# Altium footprint library Altera Cyclone III.PcbLib: 13 footprints (part 1 of 2)
Each footprint in its own frame and in the unit in brackets; x right, y up, seen from the top. Pads: shape width x height; smd on the part's side, far side on the other; paste and mask are expansions set on the pad; w line width, h text height; cw(c..) or ccw(c..) is an arc to the next point about the centre after c.
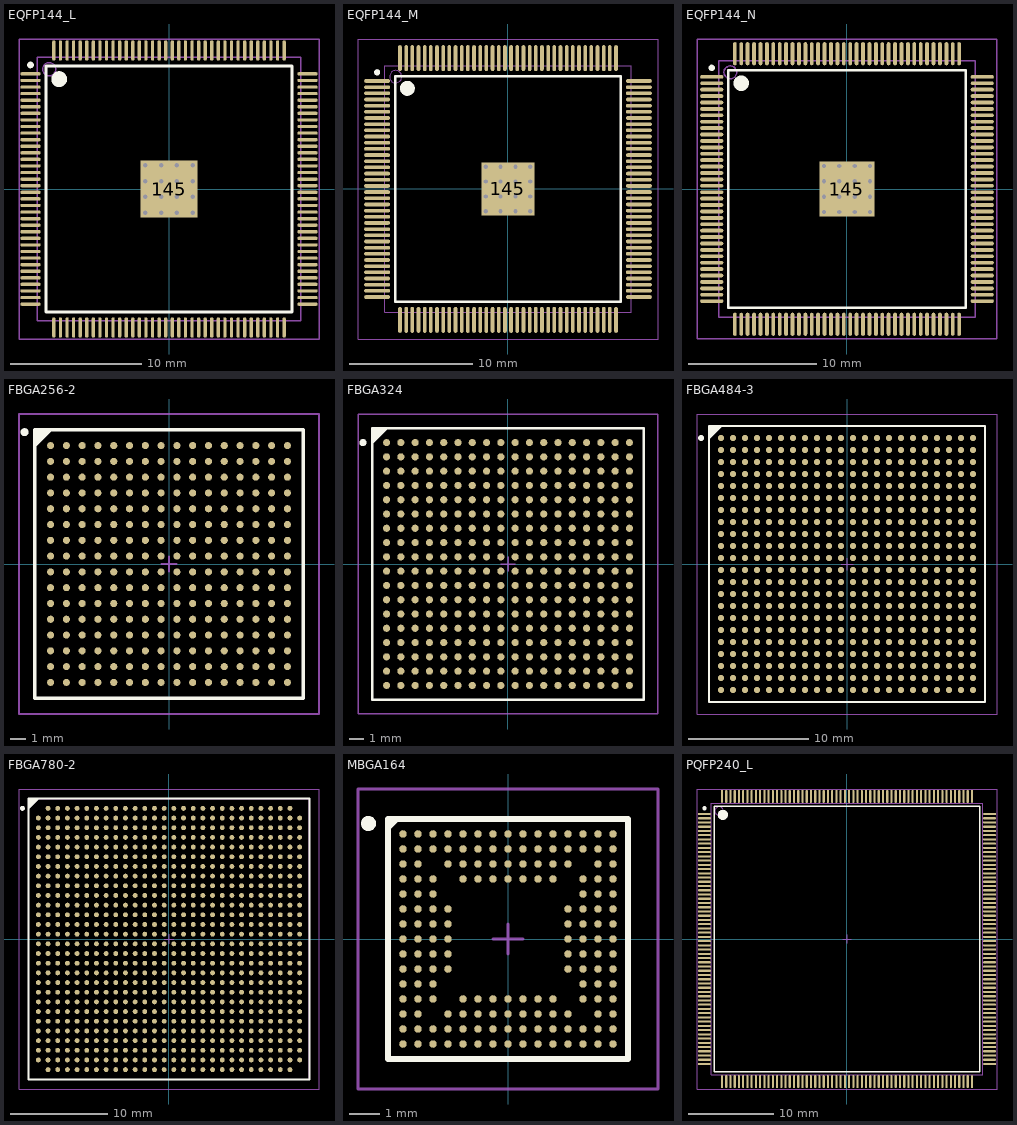
[diagram p0: the footprints below, top view; thin cyan lines are the x and y axes]

## EQFP144_L [mm] "Thin QFP, 144-Leads, Body 20x20mm, Pitch 0.5mm, IPC High Density"
height 1.6
pads (145):
  oval 1.55x0.25 smd: 1(-10.525,8.75) 2(-10.525,8.25) 3(-10.525,7.75) 4(-10.525,7.25) 5(-10.525,6.75) 6(-10.525,6.25) 7(-10.525,5.75) 8(-10.525,5.25) 9(-10.525,4.75) 10(-10.525,4.25) 11(-10.525,3.75) 12(-10.525,3.25) 13(-10.525,2.75) 14(-10.525,2.25) 15(-10.525,1.75) 16(-10.525,1.25) 17(-10.525,0.75) 18(-10.525,0.25) 19(-10.525,-0.25) 20(-10.525,-0.75) 21(-10.525,-1.25) 22(-10.525,-1.75) 23(-10.525,-2.25) 24(-10.525,-2.75) 25(-10.525,-3.25) 26(-10.525,-3.75) 27(-10.525,-4.25) 28(-10.525,-4.75) 29(-10.525,-5.25) 30(-10.525,-5.75) 31(-10.525,-6.25) 32(-10.525,-6.75) 33(-10.525,-7.25) 34(-10.525,-7.75) 35(-10.525,-8.25) 36(-10.525,-8.75) 73(10.525,-8.75) 74(10.525,-8.25) 75(10.525,-7.75) 76(10.525,-7.25) 77(10.525,-6.75) 78(10.525,-6.25) 79(10.525,-5.75) 80(10.525,-5.25) 81(10.525,-4.75) 82(10.525,-4.25) 83(10.525,-3.75) 84(10.525,-3.25) 85(10.525,-2.75) 86(10.525,-2.25) 87(10.525,-1.75) 88(10.525,-1.25) 89(10.525,-0.75) 90(10.525,-0.25) 91(10.525,0.25) 92(10.525,0.75) 93(10.525,1.25) 94(10.525,1.75) 95(10.525,2.25) 96(10.525,2.75) 97(10.525,3.25) 98(10.525,3.75) 99(10.525,4.25) 100(10.525,4.75) 101(10.525,5.25) 102(10.525,5.75) 103(10.525,6.25) 104(10.525,6.75) 105(10.525,7.25) 106(10.525,7.75) 107(10.525,8.25) 108(10.525,8.75)
  oval 0.25x1.55 smd: 37(-8.75,-10.525) 38(-8.25,-10.525) 39(-7.75,-10.525) 40(-7.25,-10.525) 41(-6.75,-10.525) 42(-6.25,-10.525) 43(-5.75,-10.525) 44(-5.25,-10.525) 45(-4.75,-10.525) 46(-4.25,-10.525) 47(-3.75,-10.525) 48(-3.25,-10.525) 49(-2.75,-10.525) 50(-2.25,-10.525) 51(-1.75,-10.525) 52(-1.25,-10.525) 53(-0.75,-10.525) 54(-0.25,-10.525) 55(0.25,-10.525) 56(0.75,-10.525) 57(1.25,-10.525) 58(1.75,-10.525) 59(2.25,-10.525) 60(2.75,-10.525) 61(3.25,-10.525) 62(3.75,-10.525) 63(4.25,-10.525) 64(4.75,-10.525) 65(5.25,-10.525) 66(5.75,-10.525) 67(6.25,-10.525) 68(6.75,-10.525) 69(7.25,-10.525) 70(7.75,-10.525) 71(8.25,-10.525) 72(8.75,-10.525) 109(8.75,10.525) 110(8.25,10.525) 111(7.75,10.525) 112(7.25,10.525) 113(6.75,10.525) 114(6.25,10.525) 115(5.75,10.525) 116(5.25,10.525) 117(4.75,10.525) 118(4.25,10.525) 119(3.75,10.525) 120(3.25,10.525) 121(2.75,10.525) 122(2.25,10.525) 123(1.75,10.525) 124(1.25,10.525) 125(0.75,10.525) 126(0.25,10.525) 127(-0.25,10.525) 128(-0.75,10.525) 129(-1.25,10.525) 130(-1.75,10.525) 131(-2.25,10.525) 132(-2.75,10.525) 133(-3.25,10.525) 134(-3.75,10.525) 135(-4.25,10.525) 136(-4.75,10.525) 137(-5.25,10.525) 138(-5.75,10.525) 139(-6.25,10.525) 140(-6.75,10.525) 141(-7.25,10.525) 142(-7.75,10.525) 143(-8.25,10.525) 144(-8.75,10.525)
  rect 4.3x4.3 smd: 145(0,0)
via -1.8,1.8 diameter 0.66 hole 0.33
via -0.6,1.8 diameter 0.66 hole 0.33
via 0.6,1.8 diameter 0.66 hole 0.33
via 1.8,1.8 diameter 0.66 hole 0.33
via -1.8,0.6 diameter 0.66 hole 0.33
via -0.6,0.6 diameter 0.66 hole 0.33
via 0.6,0.6 diameter 0.66 hole 0.33
via 1.8,0.6 diameter 0.66 hole 0.33
via -1.8,-0.6 diameter 0.66 hole 0.33
via -0.6,-0.6 diameter 0.66 hole 0.33
via 0.6,-0.6 diameter 0.66 hole 0.33
via 1.8,-0.6 diameter 0.66 hole 0.33
via -1.8,-1.8 diameter 0.66 hole 0.33
via -0.6,-1.8 diameter 0.66 hole 0.33
via 0.6,-1.8 diameter 0.66 hole 0.33
via 1.8,-1.8 diameter 0.66 hole 0.33
Top Overlay:
  circle w0.25: c-10.525,9.425 r0.125
  circle w0.6: c-8.35,8.35 r0.3
  lines w0.2: -9.35,-9.35 -9.35,9.35 9.35,9.35 9.35,-9.35 -9.35,-9.35
Mechanical 13:
  circle w0.1: c-9.1,9.1 r0.5
  lines w0.1: -10,-10 -10,10 10,10 10,-10 -10,-10
Mechanical 15:
  lines w0.1: -0.5,0 0.5,0 ; 0,-0.5 0,0.5 ; -11.4,-11.4 -11.4,11.4 11.4,11.4 11.4,-11.4 -11.4,-11.4
3D body: height 1.6, standoff 0, extent -10,-10 10,10

## EQFP144_M [mm] "Thin QFP, 144-Leads, Body 20x20mm, Pitch 0.5mm, IPC Low Density"
height 1.6
pads (145):
  oval 2.1x0.3 smd: 1(-10.6,8.75) 2(-10.6,8.25) 3(-10.6,7.75) 4(-10.6,7.25) 5(-10.6,6.75) 6(-10.6,6.25) 7(-10.6,5.75) 8(-10.6,5.25) 9(-10.6,4.75) 10(-10.6,4.25) 11(-10.6,3.75) 12(-10.6,3.25) 13(-10.6,2.75) 14(-10.6,2.25) 15(-10.6,1.75) 16(-10.6,1.25) 17(-10.6,0.75) 18(-10.6,0.25) 19(-10.6,-0.25) 20(-10.6,-0.75) 21(-10.6,-1.25) 22(-10.6,-1.75) 23(-10.6,-2.25) 24(-10.6,-2.75) 25(-10.6,-3.25) 26(-10.6,-3.75) 27(-10.6,-4.25) 28(-10.6,-4.75) 29(-10.6,-5.25) 30(-10.6,-5.75) 31(-10.6,-6.25) 32(-10.6,-6.75) 33(-10.6,-7.25) 34(-10.6,-7.75) 35(-10.6,-8.25) 36(-10.6,-8.75) 73(10.6,-8.75) 74(10.6,-8.25) 75(10.6,-7.75) 76(10.6,-7.25) 77(10.6,-6.75) 78(10.6,-6.25) 79(10.6,-5.75) 80(10.6,-5.25) 81(10.6,-4.75) 82(10.6,-4.25) 83(10.6,-3.75) 84(10.6,-3.25) 85(10.6,-2.75) 86(10.6,-2.25) 87(10.6,-1.75) 88(10.6,-1.25) 89(10.6,-0.75) 90(10.6,-0.25) 91(10.6,0.25) 92(10.6,0.75) 93(10.6,1.25) 94(10.6,1.75) 95(10.6,2.25) 96(10.6,2.75) 97(10.6,3.25) 98(10.6,3.75) 99(10.6,4.25) 100(10.6,4.75) 101(10.6,5.25) 102(10.6,5.75) 103(10.6,6.25) 104(10.6,6.75) 105(10.6,7.25) 106(10.6,7.75) 107(10.6,8.25) 108(10.6,8.75)
  oval 0.3x2.1 smd: 37(-8.75,-10.6) 38(-8.25,-10.6) 39(-7.75,-10.6) 40(-7.25,-10.6) 41(-6.75,-10.6) 42(-6.25,-10.6) 43(-5.75,-10.6) 44(-5.25,-10.6) 45(-4.75,-10.6) 46(-4.25,-10.6) 47(-3.75,-10.6) 48(-3.25,-10.6) 49(-2.75,-10.6) 50(-2.25,-10.6) 51(-1.75,-10.6) 52(-1.25,-10.6) 53(-0.75,-10.6) 54(-0.25,-10.6) 55(0.25,-10.6) 56(0.75,-10.6) 57(1.25,-10.6) 58(1.75,-10.6) 59(2.25,-10.6) 60(2.75,-10.6) 61(3.25,-10.6) 62(3.75,-10.6) 63(4.25,-10.6) 64(4.75,-10.6) 65(5.25,-10.6) 66(5.75,-10.6) 67(6.25,-10.6) 68(6.75,-10.6) 69(7.25,-10.6) 70(7.75,-10.6) 71(8.25,-10.6) 72(8.75,-10.6) 109(8.75,10.6) 110(8.25,10.6) 111(7.75,10.6) 112(7.25,10.6) 113(6.75,10.6) 114(6.25,10.6) 115(5.75,10.6) 116(5.25,10.6) 117(4.75,10.6) 118(4.25,10.6) 119(3.75,10.6) 120(3.25,10.6) 121(2.75,10.6) 122(2.25,10.6) 123(1.75,10.6) 124(1.25,10.6) 125(0.75,10.6) 126(0.25,10.6) 127(-0.25,10.6) 128(-0.75,10.6) 129(-1.25,10.6) 130(-1.75,10.6) 131(-2.25,10.6) 132(-2.75,10.6) 133(-3.25,10.6) 134(-3.75,10.6) 135(-4.25,10.6) 136(-4.75,10.6) 137(-5.25,10.6) 138(-5.75,10.6) 139(-6.25,10.6) 140(-6.75,10.6) 141(-7.25,10.6) 142(-7.75,10.6) 143(-8.25,10.6) 144(-8.75,10.6)
  rect 4.3x4.3 smd: 145(0,0)
via 1.8,-1.8 diameter 0.66 hole 0.33
via 0.6,-1.8 diameter 0.66 hole 0.33
via -0.6,-1.8 diameter 0.66 hole 0.33
via -1.8,-1.8 diameter 0.66 hole 0.33
via 1.8,-0.6 diameter 0.66 hole 0.33
via 0.6,-0.6 diameter 0.66 hole 0.33
via -0.6,-0.6 diameter 0.66 hole 0.33
via -1.8,-0.6 diameter 0.66 hole 0.33
via 1.8,0.6 diameter 0.66 hole 0.33
via 0.6,0.6 diameter 0.66 hole 0.33
via -0.6,0.6 diameter 0.66 hole 0.33
via -1.8,0.6 diameter 0.66 hole 0.33
via 1.8,1.8 diameter 0.66 hole 0.33
via 0.6,1.8 diameter 0.66 hole 0.33
via -0.6,1.8 diameter 0.66 hole 0.33
via -1.8,1.8 diameter 0.66 hole 0.33
Top Overlay:
  circle w0.25: c-10.6,9.45 r0.125
  circle w0.6: c-8.15,8.15 r0.3
  lines w0.2: -9.15,-9.15 -9.15,9.15 9.15,9.15 9.15,-9.15 -9.15,-9.15
Mechanical 13:
  circle w0.1: c-9.1,9.1 r0.5
  lines w0.1: -10,-10 -10,10 10,10 10,-10 -10,-10
Mechanical 15:
  lines w0.1: -0.5,0 0.5,0 ; 0,-0.5 0,0.5 ; -12.15,-12.15 -12.15,12.15 12.15,12.15 12.15,-12.15 -12.15,-12.15
3D body: height 1.6, standoff 0.05, extent -10,-10 10,10

## EQFP144_N [mm] "Thin QFP, 144-Leads, Body 20x20mm, Pitch 0.5mm, IPC Medium Density"
height 1.6
pads (145):
  oval 1.8x0.3 smd: 1(-10.55,8.75) 2(-10.55,8.25) 3(-10.55,7.75) 4(-10.55,7.25) 5(-10.55,6.75) 6(-10.55,6.25) 7(-10.55,5.75) 8(-10.55,5.25) 9(-10.55,4.75) 10(-10.55,4.25) 11(-10.55,3.75) 12(-10.55,3.25) 13(-10.55,2.75) 14(-10.55,2.25) 15(-10.55,1.75) 16(-10.55,1.25) 17(-10.55,0.75) 18(-10.55,0.25) 19(-10.55,-0.25) 20(-10.55,-0.75) 21(-10.55,-1.25) 22(-10.55,-1.75) 23(-10.55,-2.25) 24(-10.55,-2.75) 25(-10.55,-3.25) 26(-10.55,-3.75) 27(-10.55,-4.25) 28(-10.55,-4.75) 29(-10.55,-5.25) 30(-10.55,-5.75) 31(-10.55,-6.25) 32(-10.55,-6.75) 33(-10.55,-7.25) 34(-10.55,-7.75) 35(-10.55,-8.25) 36(-10.55,-8.75) 73(10.55,-8.75) 74(10.55,-8.25) 75(10.55,-7.75) 76(10.55,-7.25) 77(10.55,-6.75) 78(10.55,-6.25) 79(10.55,-5.75) 80(10.55,-5.25) 81(10.55,-4.75) 82(10.55,-4.25) 83(10.55,-3.75) 84(10.55,-3.25) 85(10.55,-2.75) 86(10.55,-2.25) 87(10.55,-1.75) 88(10.55,-1.25) 89(10.55,-0.75) 90(10.55,-0.25) 91(10.55,0.25) 92(10.55,0.75) 93(10.55,1.25) 94(10.55,1.75) 95(10.55,2.25) 96(10.55,2.75) 97(10.55,3.25) 98(10.55,3.75) 99(10.55,4.25) 100(10.55,4.75) 101(10.55,5.25) 102(10.55,5.75) 103(10.55,6.25) 104(10.55,6.75) 105(10.55,7.25) 106(10.55,7.75) 107(10.55,8.25) 108(10.55,8.75)
  oval 0.3x1.8 smd: 37(-8.75,-10.55) 38(-8.25,-10.55) 39(-7.75,-10.55) 40(-7.25,-10.55) 41(-6.75,-10.55) 42(-6.25,-10.55) 43(-5.75,-10.55) 44(-5.25,-10.55) 45(-4.75,-10.55) 46(-4.25,-10.55) 47(-3.75,-10.55) 48(-3.25,-10.55) 49(-2.75,-10.55) 50(-2.25,-10.55) 51(-1.75,-10.55) 52(-1.25,-10.55) 53(-0.75,-10.55) 54(-0.25,-10.55) 55(0.25,-10.55) 56(0.75,-10.55) 57(1.25,-10.55) 58(1.75,-10.55) 59(2.25,-10.55) 60(2.75,-10.55) 61(3.25,-10.55) 62(3.75,-10.55) 63(4.25,-10.55) 64(4.75,-10.55) 65(5.25,-10.55) 66(5.75,-10.55) 67(6.25,-10.55) 68(6.75,-10.55) 69(7.25,-10.55) 70(7.75,-10.55) 71(8.25,-10.55) 72(8.75,-10.55) 109(8.75,10.55) 110(8.25,10.55) 111(7.75,10.55) 112(7.25,10.55) 113(6.75,10.55) 114(6.25,10.55) 115(5.75,10.55) 116(5.25,10.55) 117(4.75,10.55) 118(4.25,10.55) 119(3.75,10.55) 120(3.25,10.55) 121(2.75,10.55) 122(2.25,10.55) 123(1.75,10.55) 124(1.25,10.55) 125(0.75,10.55) 126(0.25,10.55) 127(-0.25,10.55) 128(-0.75,10.55) 129(-1.25,10.55) 130(-1.75,10.55) 131(-2.25,10.55) 132(-2.75,10.55) 133(-3.25,10.55) 134(-3.75,10.55) 135(-4.25,10.55) 136(-4.75,10.55) 137(-5.25,10.55) 138(-5.75,10.55) 139(-6.25,10.55) 140(-6.75,10.55) 141(-7.25,10.55) 142(-7.75,10.55) 143(-8.25,10.55) 144(-8.75,10.55)
  rect 4.3x4.3 smd: 145(0,0)
via -1.8,1.8 diameter 0.66 hole 0.33
via -0.6,1.8 diameter 0.66 hole 0.33
via 0.6,1.8 diameter 0.66 hole 0.33
via 1.8,1.8 diameter 0.66 hole 0.33
via -1.8,0.6 diameter 0.66 hole 0.33
via -0.6,0.6 diameter 0.66 hole 0.33
via 0.6,0.6 diameter 0.66 hole 0.33
via 1.8,0.6 diameter 0.66 hole 0.33
via -1.8,-0.6 diameter 0.66 hole 0.33
via -0.6,-0.6 diameter 0.66 hole 0.33
via 0.6,-0.6 diameter 0.66 hole 0.33
via 1.8,-0.6 diameter 0.66 hole 0.33
via -1.8,-1.8 diameter 0.66 hole 0.33
via -0.6,-1.8 diameter 0.66 hole 0.33
via 0.6,-1.8 diameter 0.66 hole 0.33
via 1.8,-1.8 diameter 0.66 hole 0.33
Top Overlay:
  circle w0.25: c-10.55,9.45 r0.125
  circle w0.6: c-8.25,8.25 r0.3
  lines w0.2: -9.25,-9.25 -9.25,9.25 9.25,9.25 9.25,-9.25 -9.25,-9.25
Mechanical 13:
  circle w0.1: c-9.1,9.1 r0.5
  lines w0.1: -10,-10 -10,10 10,10 10,-10 -10,-10
Mechanical 15:
  lines w0.1: -0.5,0 0.5,0 ; 0,-0.5 0,0.5 ; -11.7,-11.7 -11.7,11.7 11.7,11.7 11.7,-11.7 -11.7,-11.7
3D body: height 1.6, standoff 0, extent -10,-10 10,10

## FBGA256-2 [mm] "BGA, 256-Leads, Body 17x17mm, Pitch 1mm"
height 1.55
pads (256):
  round 0.45 smd: A1(-7.5,7.5) A2(-6.5,7.5) A3(-5.5,7.5) A4(-4.5,7.5) A5(-3.5,7.5) A6(-2.5,7.5) A7(-1.5,7.5) A8(-0.5,7.5) A9(0.5,7.5) A10(1.5,7.5) A11(2.5,7.5) A12(3.5,7.5) A13(4.5,7.5) A14(5.5,7.5) A15(6.5,7.5) A16(7.5,7.5) B1(-7.5,6.5) B2(-6.5,6.5) B3(-5.5,6.5) B4(-4.5,6.5) B5(-3.5,6.5) B6(-2.5,6.5) B7(-1.5,6.5) B8(-0.5,6.5) B9(0.5,6.5) B10(1.5,6.5) B11(2.5,6.5) B12(3.5,6.5) B13(4.5,6.5) B14(5.5,6.5) B15(6.5,6.5) B16(7.5,6.5) C1(-7.5,5.5) C2(-6.5,5.5) C3(-5.5,5.5) C4(-4.5,5.5) C5(-3.5,5.5) C6(-2.5,5.5) C7(-1.5,5.5) C8(-0.5,5.5) C9(0.5,5.5) C10(1.5,5.5) C11(2.5,5.5) C12(3.5,5.5) C13(4.5,5.5) C14(5.5,5.5) C15(6.5,5.5) C16(7.5,5.5) D1(-7.5,4.5) D2(-6.5,4.5) D3(-5.5,4.5) D4(-4.5,4.5) D5(-3.5,4.5) D6(-2.5,4.5) D7(-1.5,4.5) D8(-0.5,4.5) D9(0.5,4.5) D10(1.5,4.5) D11(2.5,4.5) D12(3.5,4.5) D13(4.5,4.5) D14(5.5,4.5) D15(6.5,4.5) D16(7.5,4.5) E1(-7.5,3.5) E2(-6.5,3.5) E3(-5.5,3.5) E4(-4.5,3.5) E5(-3.5,3.5) E6(-2.5,3.5) E7(-1.5,3.5) E8(-0.5,3.5) E9(0.5,3.5) E10(1.5,3.5) E11(2.5,3.5) E12(3.5,3.5) E13(4.5,3.5) E14(5.5,3.5) E15(6.5,3.5) E16(7.5,3.5) F1(-7.5,2.5) F2(-6.5,2.5) F3(-5.5,2.5) F4(-4.5,2.5) F5(-3.5,2.5) F6(-2.5,2.5) F7(-1.5,2.5) F8(-0.5,2.5) F9(0.5,2.5) F10(1.5,2.5) F11(2.5,2.5) F12(3.5,2.5) F13(4.5,2.5) F14(5.5,2.5) F15(6.5,2.5) F16(7.5,2.5) G1(-7.5,1.5) G2(-6.5,1.5) G3(-5.5,1.5) G4(-4.5,1.5) G5(-3.5,1.5) G6(-2.5,1.5) G7(-1.5,1.5) G8(-0.5,1.5) G9(0.5,1.5) G10(1.5,1.5) G11(2.5,1.5) G12(3.5,1.5) G13(4.5,1.5) G14(5.5,1.5) G15(6.5,1.5) G16(7.5,1.5) H1(-7.5,0.5) H2(-6.5,0.5) H3(-5.5,0.5) H4(-4.5,0.5) H5(-3.5,0.5) H6(-2.5,0.5) H7(-1.5,0.5) H8(-0.5,0.5) H9(0.5,0.5) H10(1.5,0.5) H11(2.5,0.5) H12(3.5,0.5) H13(4.5,0.5) H14(5.5,0.5) H15(6.5,0.5) H16(7.5,0.5) J1(-7.5,-0.5) J2(-6.5,-0.5) J3(-5.5,-0.5) J4(-4.5,-0.5) J5(-3.5,-0.5) J6(-2.5,-0.5) J7(-1.5,-0.5) J8(-0.5,-0.5) J9(0.5,-0.5) J10(1.5,-0.5) J11(2.5,-0.5) J12(3.5,-0.5) J13(4.5,-0.5) J14(5.5,-0.5) J15(6.5,-0.5) J16(7.5,-0.5) K1(-7.5,-1.5) K2(-6.5,-1.5) K3(-5.5,-1.5) K4(-4.5,-1.5) K5(-3.5,-1.5) K6(-2.5,-1.5) K7(-1.5,-1.5) K8(-0.5,-1.5) K9(0.5,-1.5) K10(1.5,-1.5) K11(2.5,-1.5) K12(3.5,-1.5) K13(4.5,-1.5) K14(5.5,-1.5) K15(6.5,-1.5) K16(7.5,-1.5) L1(-7.5,-2.5) L2(-6.5,-2.5) L3(-5.5,-2.5) L4(-4.5,-2.5) L5(-3.5,-2.5) L6(-2.5,-2.5) L7(-1.5,-2.5) L8(-0.5,-2.5) L9(0.5,-2.5) L10(1.5,-2.5) L11(2.5,-2.5) L12(3.5,-2.5) L13(4.5,-2.5) L14(5.5,-2.5) L15(6.5,-2.5) L16(7.5,-2.5) M1(-7.5,-3.5) M2(-6.5,-3.5) M3(-5.5,-3.5) M4(-4.5,-3.5) M5(-3.5,-3.5) M6(-2.5,-3.5) M7(-1.5,-3.5) M8(-0.5,-3.5) M9(0.5,-3.5) M10(1.5,-3.5) M11(2.5,-3.5) M12(3.5,-3.5) M13(4.5,-3.5) M14(5.5,-3.5) M15(6.5,-3.5) M16(7.5,-3.5) N1(-7.5,-4.5) N2(-6.5,-4.5) N3(-5.5,-4.5) N4(-4.5,-4.5) N5(-3.5,-4.5) N6(-2.5,-4.5) N7(-1.5,-4.5) N8(-0.5,-4.5) N9(0.5,-4.5) N10(1.5,-4.5) N11(2.5,-4.5) N12(3.5,-4.5) N13(4.5,-4.5) N14(5.5,-4.5) N15(6.5,-4.5) N16(7.5,-4.5) P1(-7.5,-5.5) P2(-6.5,-5.5) P3(-5.5,-5.5) P4(-4.5,-5.5) P5(-3.5,-5.5) P6(-2.5,-5.5) P7(-1.5,-5.5) P8(-0.5,-5.5) P9(0.5,-5.5) P10(1.5,-5.5) P11(2.5,-5.5) P12(3.5,-5.5) P13(4.5,-5.5) P14(5.5,-5.5) P15(6.5,-5.5) P16(7.5,-5.5) R1(-7.5,-6.5) R2(-6.5,-6.5) R3(-5.5,-6.5) R4(-4.5,-6.5) R5(-3.5,-6.5) R6(-2.5,-6.5) R7(-1.5,-6.5) R8(-0.5,-6.5) R9(0.5,-6.5) R10(1.5,-6.5) R11(2.5,-6.5) R12(3.5,-6.5) R13(4.5,-6.5) R14(5.5,-6.5) R15(6.5,-6.5) R16(7.5,-6.5) T1(-7.5,-7.5) T2(-6.5,-7.5) T3(-5.5,-7.5) T4(-4.5,-7.5) T5(-3.5,-7.5) T6(-2.5,-7.5) T7(-1.5,-7.5) T8(-0.5,-7.5) T9(0.5,-7.5) T10(1.5,-7.5) T11(2.5,-7.5) T12(3.5,-7.5) T13(4.5,-7.5) T14(5.5,-7.5) T15(6.5,-7.5) T16(7.5,-7.5)
Top Overlay:
  circle w0.25: c-9.15,8.35 r0.125
  region: -7.5,8.5 -8.5,7.5 -8.5,8.5
  lines w0.2: -8.5,7.5 -7.5,8.5 ; -8.5,-8.5 -8.5,8.5 8.5,8.5 8.5,-8.5 -8.5,-8.5
Mechanical 13:
  lines w0.1: -8.5,-8.5 -8.5,8.5 8.5,8.5 8.5,-8.5 -8.5,-8.5
Mechanical 15:
  lines w0.1: -0.5,0 0.5,0 ; 0,-0.5 0,0.5 ; -9.5,-9.5 -9.5,9.5 9.5,9.5 9.5,-9.5 -9.5,-9.5
3D body: height 1.55, standoff 0, extent -8.5,-8.5 8.5,8.5

## FBGA324 [mm] "BGA, 324-Leads, Body 19x19mm, Pitch 1mm"
height 2.2
pads (324):
  round 0.5 smd: A1(-8.5,8.5) A2(-7.5,8.5) A3(-6.5,8.5) A4(-5.5,8.5) A5(-4.5,8.5) A6(-3.5,8.5) A7(-2.5,8.5) A8(-1.5,8.5) A9(-0.5,8.5) A10(0.5,8.5) A11(1.5,8.5) A12(2.5,8.5) A13(3.5,8.5) A14(4.5,8.5) A15(5.5,8.5) A16(6.5,8.5) A17(7.5,8.5) A18(8.5,8.5) B1(-8.5,7.5) B2(-7.5,7.5) B3(-6.5,7.5) B4(-5.5,7.5) B5(-4.5,7.5) B6(-3.5,7.5) B7(-2.5,7.5) B8(-1.5,7.5) B9(-0.5,7.5) B10(0.5,7.5) B11(1.5,7.5) B12(2.5,7.5) B13(3.5,7.5) B14(4.5,7.5) B15(5.5,7.5) B16(6.5,7.5) B17(7.5,7.5) B18(8.5,7.5) C1(-8.5,6.5) C2(-7.5,6.5) C3(-6.5,6.5) C4(-5.5,6.5) C5(-4.5,6.5) C6(-3.5,6.5) C7(-2.5,6.5) C8(-1.5,6.5) C9(-0.5,6.5) C10(0.5,6.5) C11(1.5,6.5) C12(2.5,6.5) C13(3.5,6.5) C14(4.5,6.5) C15(5.5,6.5) C16(6.5,6.5) C17(7.5,6.5) C18(8.5,6.5) D1(-8.5,5.5) D2(-7.5,5.5) D3(-6.5,5.5) D4(-5.5,5.5) D5(-4.5,5.5) D6(-3.5,5.5) D7(-2.5,5.5) D8(-1.5,5.5) D9(-0.5,5.5) D10(0.5,5.5) D11(1.5,5.5) D12(2.5,5.5) D13(3.5,5.5) D14(4.5,5.5) D15(5.5,5.5) D16(6.5,5.5) D17(7.5,5.5) D18(8.5,5.5) E1(-8.5,4.5) E2(-7.5,4.5) E3(-6.5,4.5) E4(-5.5,4.5) E5(-4.5,4.5) E6(-3.5,4.5) E7(-2.5,4.5) E8(-1.5,4.5) E9(-0.5,4.5) E10(0.5,4.5) E11(1.5,4.5) E12(2.5,4.5) E13(3.5,4.5) E14(4.5,4.5) E15(5.5,4.5) E16(6.5,4.5) E17(7.5,4.5) E18(8.5,4.5) F1(-8.5,3.5) F2(-7.5,3.5) F3(-6.5,3.5) F4(-5.5,3.5) F5(-4.5,3.5) F6(-3.5,3.5) F7(-2.5,3.5) F8(-1.5,3.5) F9(-0.5,3.5) F10(0.5,3.5) F11(1.5,3.5) F12(2.5,3.5) F13(3.5,3.5) F14(4.5,3.5) F15(5.5,3.5) F16(6.5,3.5) F17(7.5,3.5) F18(8.5,3.5) G1(-8.5,2.5) G2(-7.5,2.5) G3(-6.5,2.5) G4(-5.5,2.5) G5(-4.5,2.5) G6(-3.5,2.5) G7(-2.5,2.5) G8(-1.5,2.5) G9(-0.5,2.5) G10(0.5,2.5) G11(1.5,2.5) G12(2.5,2.5) G13(3.5,2.5) G14(4.5,2.5) G15(5.5,2.5) G16(6.5,2.5) G17(7.5,2.5) G18(8.5,2.5) H1(-8.5,1.5) H2(-7.5,1.5) H3(-6.5,1.5) H4(-5.5,1.5) H5(-4.5,1.5) H6(-3.5,1.5) H7(-2.5,1.5) H8(-1.5,1.5) H9(-0.5,1.5) H10(0.5,1.5) H11(1.5,1.5) H12(2.5,1.5) H13(3.5,1.5) H14(4.5,1.5) H15(5.5,1.5) H16(6.5,1.5) H17(7.5,1.5) H18(8.5,1.5) J1(-8.5,0.5) J2(-7.5,0.5) J3(-6.5,0.5) J4(-5.5,0.5) J5(-4.5,0.5) J6(-3.5,0.5) J7(-2.5,0.5) J8(-1.5,0.5) J9(-0.5,0.5) J10(0.5,0.5) J11(1.5,0.5) J12(2.5,0.5) J13(3.5,0.5) J14(4.5,0.5) J15(5.5,0.5) J16(6.5,0.5) J17(7.5,0.5) J18(8.5,0.5) K1(-8.5,-0.5) K2(-7.5,-0.5) K3(-6.5,-0.5) K4(-5.5,-0.5) K5(-4.5,-0.5) K6(-3.5,-0.5) K7(-2.5,-0.5) K8(-1.5,-0.5) K9(-0.5,-0.5) K10(0.5,-0.5) K11(1.5,-0.5) K12(2.5,-0.5) K13(3.5,-0.5) K14(4.5,-0.5) K15(5.5,-0.5) K16(6.5,-0.5) K17(7.5,-0.5) K18(8.5,-0.5) L1(-8.5,-1.5) L2(-7.5,-1.5) L3(-6.5,-1.5) L4(-5.5,-1.5) L5(-4.5,-1.5) L6(-3.5,-1.5) L7(-2.5,-1.5) L8(-1.5,-1.5) L9(-0.5,-1.5) L10(0.5,-1.5) L11(1.5,-1.5) L12(2.5,-1.5) L13(3.5,-1.5) L14(4.5,-1.5) L15(5.5,-1.5) L16(6.5,-1.5) L17(7.5,-1.5) L18(8.5,-1.5) M1(-8.5,-2.5) M2(-7.5,-2.5) M3(-6.5,-2.5) M4(-5.5,-2.5) M5(-4.5,-2.5) M6(-3.5,-2.5) M7(-2.5,-2.5) M8(-1.5,-2.5) M9(-0.5,-2.5) M10(0.5,-2.5) M11(1.5,-2.5) M12(2.5,-2.5) M13(3.5,-2.5) M14(4.5,-2.5) M15(5.5,-2.5) M16(6.5,-2.5) M17(7.5,-2.5) M18(8.5,-2.5) N1(-8.5,-3.5) N2(-7.5,-3.5) N3(-6.5,-3.5) N4(-5.5,-3.5) N5(-4.5,-3.5) N6(-3.5,-3.5) N7(-2.5,-3.5) N8(-1.5,-3.5) N9(-0.5,-3.5) N10(0.5,-3.5) N11(1.5,-3.5) N12(2.5,-3.5) N13(3.5,-3.5) N14(4.5,-3.5) N15(5.5,-3.5) N16(6.5,-3.5) N17(7.5,-3.5) N18(8.5,-3.5) P1(-8.5,-4.5) P2(-7.5,-4.5) P3(-6.5,-4.5) P4(-5.5,-4.5) P5(-4.5,-4.5) P6(-3.5,-4.5) P7(-2.5,-4.5) P8(-1.5,-4.5) P9(-0.5,-4.5) P10(0.5,-4.5) P11(1.5,-4.5) P12(2.5,-4.5) P13(3.5,-4.5) P14(4.5,-4.5) P15(5.5,-4.5) P16(6.5,-4.5) P17(7.5,-4.5) P18(8.5,-4.5) R1(-8.5,-5.5) R2(-7.5,-5.5) R3(-6.5,-5.5) R4(-5.5,-5.5) R5(-4.5,-5.5) R6(-3.5,-5.5) R7(-2.5,-5.5) R8(-1.5,-5.5) R9(-0.5,-5.5) R10(0.5,-5.5) R11(1.5,-5.5) R12(2.5,-5.5) R13(3.5,-5.5) R14(4.5,-5.5) R15(5.5,-5.5) R16(6.5,-5.5) R17(7.5,-5.5) R18(8.5,-5.5) T1(-8.5,-6.5) T2(-7.5,-6.5) T3(-6.5,-6.5) T4(-5.5,-6.5) T5(-4.5,-6.5) T6(-3.5,-6.5) T7(-2.5,-6.5) T8(-1.5,-6.5) T9(-0.5,-6.5) T10(0.5,-6.5) T11(1.5,-6.5) T12(2.5,-6.5) T13(3.5,-6.5) T14(4.5,-6.5) T15(5.5,-6.5) T16(6.5,-6.5) T17(7.5,-6.5) T18(8.5,-6.5) U1(-8.5,-7.5) U2(-7.5,-7.5) U3(-6.5,-7.5) U4(-5.5,-7.5) U5(-4.5,-7.5) U6(-3.5,-7.5) U7(-2.5,-7.5) U8(-1.5,-7.5) U9(-0.5,-7.5) U10(0.5,-7.5) U11(1.5,-7.5) U12(2.5,-7.5) U13(3.5,-7.5) U14(4.5,-7.5) U15(5.5,-7.5) U16(6.5,-7.5) U17(7.5,-7.5) U18(8.5,-7.5) V1(-8.5,-8.5) V2(-7.5,-8.5) V3(-6.5,-8.5) V4(-5.5,-8.5) V5(-4.5,-8.5) V6(-3.5,-8.5) V7(-2.5,-8.5) V8(-1.5,-8.5) V9(-0.5,-8.5) V10(0.5,-8.5) V11(1.5,-8.5) V12(2.5,-8.5) V13(3.5,-8.5) V14(4.5,-8.5) V15(5.5,-8.5) V16(6.5,-8.5) V17(7.5,-8.5) V18(8.5,-8.5)
Top Overlay:
  circle w0.25: c-10.15,8.5 r0.125
  region: -8.5,9.5 -9.5,8.5 -9.5,9.5
  lines w0.2: -9.5,8.5 -8.5,9.5 ; -9.5,-9.5 9.5,-9.5 9.5,9.5 -9.5,9.5 -9.5,-9.5
Mechanical 13:
  lines w0.1: -9.5,-9.5 9.5,-9.5 9.5,9.5 -9.5,9.5 -9.5,-9.5
Mechanical 15:
  lines w0.1: -0.5,0 0.5,0 ; 0,-0.5 0,0.5 ; -10.5,-10.5 10.5,-10.5 10.5,10.5 -10.5,10.5 -10.5,-10.5
3D body: height 2.2, standoff 0, extent -9.5,-9.5 9.5,9.5

## FBGA484-3 [mm] "BGA, 484-Leads, Body 23x23mm, Pitch 1mm"
height 2.6
pads (484):
  round 0.5 smd: A1(-10.5,10.5) A2(-9.5,10.5) A3(-8.5,10.5) A4(-7.5,10.5) A5(-6.5,10.5) A6(-5.5,10.5) A7(-4.5,10.5) A8(-3.5,10.5) A9(-2.5,10.5) A10(-1.5,10.5) A11(-0.5,10.5) A12(0.5,10.5) A13(1.5,10.5) A14(2.5,10.5) A15(3.5,10.5) A16(4.5,10.5) A17(5.5,10.5) A18(6.5,10.5) A19(7.5,10.5) A20(8.5,10.5) A21(9.5,10.5) A22(10.5,10.5) AA1(-10.5,-9.5) AA2(-9.5,-9.5) AA3(-8.5,-9.5) AA4(-7.5,-9.5) AA5(-6.5,-9.5) AA6(-5.5,-9.5) AA7(-4.5,-9.5) AA8(-3.5,-9.5) AA9(-2.5,-9.5) AA10(-1.5,-9.5) AA11(-0.5,-9.5) AA12(0.5,-9.5) AA13(1.5,-9.5) AA14(2.5,-9.5) AA15(3.5,-9.5) AA16(4.5,-9.5) AA17(5.5,-9.5) AA18(6.5,-9.5) AA19(7.5,-9.5) AA20(8.5,-9.5) AA21(9.5,-9.5) AA22(10.5,-9.5) AB1(-10.5,-10.5) AB2(-9.5,-10.5) AB3(-8.5,-10.5) AB4(-7.5,-10.5) AB5(-6.5,-10.5) AB6(-5.5,-10.5) AB7(-4.5,-10.5) AB8(-3.5,-10.5) AB9(-2.5,-10.5) AB10(-1.5,-10.5) AB11(-0.5,-10.5) AB12(0.5,-10.5) AB13(1.5,-10.5) AB14(2.5,-10.5) AB15(3.5,-10.5) AB16(4.5,-10.5) AB17(5.5,-10.5) AB18(6.5,-10.5) AB19(7.5,-10.5) AB20(8.5,-10.5) AB21(9.5,-10.5) AB22(10.5,-10.5) B1(-10.5,9.5) B2(-9.5,9.5) B3(-8.5,9.5) B4(-7.5,9.5) B5(-6.5,9.5) B6(-5.5,9.5) B7(-4.5,9.5) B8(-3.5,9.5) B9(-2.5,9.5) B10(-1.5,9.5) B11(-0.5,9.5) B12(0.5,9.5) B13(1.5,9.5) B14(2.5,9.5) B15(3.5,9.5) B16(4.5,9.5) B17(5.5,9.5) B18(6.5,9.5) B19(7.5,9.5) B20(8.5,9.5) B21(9.5,9.5) B22(10.5,9.5) C1(-10.5,8.5) C2(-9.5,8.5) C3(-8.5,8.5) C4(-7.5,8.5) C5(-6.5,8.5) C6(-5.5,8.5) C7(-4.5,8.5) C8(-3.5,8.5) C9(-2.5,8.5) C10(-1.5,8.5) C11(-0.5,8.5) C12(0.5,8.5) C13(1.5,8.5) C14(2.5,8.5) C15(3.5,8.5) C16(4.5,8.5) C17(5.5,8.5) C18(6.5,8.5) C19(7.5,8.5) C20(8.5,8.5) C21(9.5,8.5) C22(10.5,8.5) D1(-10.5,7.5) D2(-9.5,7.5) D3(-8.5,7.5) D4(-7.5,7.5) D5(-6.5,7.5) D6(-5.5,7.5) D7(-4.5,7.5) D8(-3.5,7.5) D9(-2.5,7.5) D10(-1.5,7.5) D11(-0.5,7.5) D12(0.5,7.5) D13(1.5,7.5) D14(2.5,7.5) D15(3.5,7.5) D16(4.5,7.5) D17(5.5,7.5) D18(6.5,7.5) D19(7.5,7.5) D20(8.5,7.5) D21(9.5,7.5) D22(10.5,7.5) E1(-10.5,6.5) E2(-9.5,6.5) E3(-8.5,6.5) E4(-7.5,6.5) E5(-6.5,6.5) E6(-5.5,6.5) E7(-4.5,6.5) E8(-3.5,6.5) E9(-2.5,6.5) E10(-1.5,6.5) E11(-0.5,6.5) E12(0.5,6.5) E13(1.5,6.5) E14(2.5,6.5) E15(3.5,6.5) E16(4.5,6.5) E17(5.5,6.5) E18(6.5,6.5) E19(7.5,6.5) E20(8.5,6.5) E21(9.5,6.5) E22(10.5,6.5) F1(-10.5,5.5) F2(-9.5,5.5) F3(-8.5,5.5) F4(-7.5,5.5) F5(-6.5,5.5) F6(-5.5,5.5) F7(-4.5,5.5) F8(-3.5,5.5) F9(-2.5,5.5) F10(-1.5,5.5) F11(-0.5,5.5) F12(0.5,5.5) F13(1.5,5.5) F14(2.5,5.5) F15(3.5,5.5) F16(4.5,5.5) F17(5.5,5.5) F18(6.5,5.5) F19(7.5,5.5) F20(8.5,5.5) F21(9.5,5.5) F22(10.5,5.5) G1(-10.5,4.5) G2(-9.5,4.5) G3(-8.5,4.5) G4(-7.5,4.5) G5(-6.5,4.5) G6(-5.5,4.5) G7(-4.5,4.5) G8(-3.5,4.5) G9(-2.5,4.5) G10(-1.5,4.5) G11(-0.5,4.5) G12(0.5,4.5) G13(1.5,4.5) G14(2.5,4.5) G15(3.5,4.5) G16(4.5,4.5) G17(5.5,4.5) G18(6.5,4.5) G19(7.5,4.5) G20(8.5,4.5) G21(9.5,4.5) G22(10.5,4.5) H1(-10.5,3.5) H2(-9.5,3.5) H3(-8.5,3.5) H4(-7.5,3.5) H5(-6.5,3.5) H6(-5.5,3.5) H7(-4.5,3.5) H8(-3.5,3.5) H9(-2.5,3.5) H10(-1.5,3.5) H11(-0.5,3.5) H12(0.5,3.5) H13(1.5,3.5) H14(2.5,3.5) H15(3.5,3.5) H16(4.5,3.5) H17(5.5,3.5) H18(6.5,3.5) H19(7.5,3.5) H20(8.5,3.5) H21(9.5,3.5) H22(10.5,3.5) J1(-10.5,2.5) J2(-9.5,2.5) J3(-8.5,2.5) J4(-7.5,2.5) J5(-6.5,2.5) J6(-5.5,2.5) J7(-4.5,2.5) J8(-3.5,2.5) J9(-2.5,2.5) J10(-1.5,2.5) J11(-0.5,2.5) J12(0.5,2.5) J13(1.5,2.5) J14(2.5,2.5) J15(3.5,2.5) J16(4.5,2.5) J17(5.5,2.5) J18(6.5,2.5) J19(7.5,2.5) J20(8.5,2.5) J21(9.5,2.5) J22(10.5,2.5) K1(-10.5,1.5) K2(-9.5,1.5) K3(-8.5,1.5) K4(-7.5,1.5) K5(-6.5,1.5) K6(-5.5,1.5) K7(-4.5,1.5) K8(-3.5,1.5) K9(-2.5,1.5) K10(-1.5,1.5) K11(-0.5,1.5) K12(0.5,1.5) K13(1.5,1.5) K14(2.5,1.5) K15(3.5,1.5) K16(4.5,1.5) K17(5.5,1.5) K18(6.5,1.5) K19(7.5,1.5) K20(8.5,1.5) K21(9.5,1.5) K22(10.5,1.5) L1(-10.5,0.5) L2(-9.5,0.5) L3(-8.5,0.5) L4(-7.5,0.5) L5(-6.5,0.5) L6(-5.5,0.5) L7(-4.5,0.5) L8(-3.5,0.5) L9(-2.5,0.5) L10(-1.5,0.5) L11(-0.5,0.5) L12(0.5,0.5) L13(1.5,0.5) L14(2.5,0.5) L15(3.5,0.5) L16(4.5,0.5) L17(5.5,0.5) L18(6.5,0.5) L19(7.5,0.5) L20(8.5,0.5) L21(9.5,0.5) L22(10.5,0.5) M1(-10.5,-0.5) M2(-9.5,-0.5) M3(-8.5,-0.5) M4(-7.5,-0.5) M5(-6.5,-0.5) M6(-5.5,-0.5) M7(-4.5,-0.5) M8(-3.5,-0.5) M9(-2.5,-0.5) M10(-1.5,-0.5) M11(-0.5,-0.5) M12(0.5,-0.5) M13(1.5,-0.5) M14(2.5,-0.5) M15(3.5,-0.5) M16(4.5,-0.5) M17(5.5,-0.5) M18(6.5,-0.5) M19(7.5,-0.5) M20(8.5,-0.5) M21(9.5,-0.5) M22(10.5,-0.5) N1(-10.5,-1.5) N2(-9.5,-1.5) N3(-8.5,-1.5) N4(-7.5,-1.5) N5(-6.5,-1.5) N6(-5.5,-1.5) N7(-4.5,-1.5) N8(-3.5,-1.5) N9(-2.5,-1.5) N10(-1.5,-1.5) N11(-0.5,-1.5) N12(0.5,-1.5) N13(1.5,-1.5) N14(2.5,-1.5) N15(3.5,-1.5) N16(4.5,-1.5) N17(5.5,-1.5) N18(6.5,-1.5) N19(7.5,-1.5) N20(8.5,-1.5) N21(9.5,-1.5) N22(10.5,-1.5) P1(-10.5,-2.5) P2(-9.5,-2.5) P3(-8.5,-2.5) P4(-7.5,-2.5) P5(-6.5,-2.5) P6(-5.5,-2.5) P7(-4.5,-2.5) P8(-3.5,-2.5) P9(-2.5,-2.5) P10(-1.5,-2.5) P11(-0.5,-2.5) P12(0.5,-2.5) P13(1.5,-2.5) P14(2.5,-2.5) P15(3.5,-2.5) P16(4.5,-2.5) P17(5.5,-2.5) P18(6.5,-2.5) P19(7.5,-2.5) P20(8.5,-2.5) P21(9.5,-2.5) P22(10.5,-2.5) R1(-10.5,-3.5) R2(-9.5,-3.5) R3(-8.5,-3.5) R4(-7.5,-3.5) R5(-6.5,-3.5) R6(-5.5,-3.5) R7(-4.5,-3.5) R8(-3.5,-3.5) R9(-2.5,-3.5) R10(-1.5,-3.5) R11(-0.5,-3.5) R12(0.5,-3.5) R13(1.5,-3.5) R14(2.5,-3.5) R15(3.5,-3.5) R16(4.5,-3.5) R17(5.5,-3.5) R18(6.5,-3.5) R19(7.5,-3.5) R20(8.5,-3.5) R21(9.5,-3.5) R22(10.5,-3.5) T1(-10.5,-4.5) T2(-9.5,-4.5) T3(-8.5,-4.5) T4(-7.5,-4.5) T5(-6.5,-4.5) T6(-5.5,-4.5) T7(-4.5,-4.5) T8(-3.5,-4.5) T9(-2.5,-4.5) T10(-1.5,-4.5) T11(-0.5,-4.5) T12(0.5,-4.5) T13(1.5,-4.5) T14(2.5,-4.5) T15(3.5,-4.5) T16(4.5,-4.5) T17(5.5,-4.5) T18(6.5,-4.5) T19(7.5,-4.5) T20(8.5,-4.5) T21(9.5,-4.5) T22(10.5,-4.5) U1(-10.5,-5.5) U2(-9.5,-5.5) U3(-8.5,-5.5) U4(-7.5,-5.5) U5(-6.5,-5.5) U6(-5.5,-5.5) U7(-4.5,-5.5) U8(-3.5,-5.5) U9(-2.5,-5.5) U10(-1.5,-5.5) U11(-0.5,-5.5) U12(0.5,-5.5) U13(1.5,-5.5) U14(2.5,-5.5) U15(3.5,-5.5) U16(4.5,-5.5) U17(5.5,-5.5) U18(6.5,-5.5) U19(7.5,-5.5) U20(8.5,-5.5) U21(9.5,-5.5) U22(10.5,-5.5) V1(-10.5,-6.5) V2(-9.5,-6.5) V3(-8.5,-6.5) V4(-7.5,-6.5) V5(-6.5,-6.5) V6(-5.5,-6.5) V7(-4.5,-6.5) V8(-3.5,-6.5) V9(-2.5,-6.5) V10(-1.5,-6.5) V11(-0.5,-6.5) V12(0.5,-6.5) V13(1.5,-6.5) V14(2.5,-6.5) V15(3.5,-6.5) V16(4.5,-6.5) V17(5.5,-6.5) V18(6.5,-6.5) V19(7.5,-6.5) V20(8.5,-6.5) V21(9.5,-6.5) V22(10.5,-6.5) W1(-10.5,-7.5) W2(-9.5,-7.5) W3(-8.5,-7.5) W4(-7.5,-7.5) W5(-6.5,-7.5) W6(-5.5,-7.5) W7(-4.5,-7.5) W8(-3.5,-7.5) W9(-2.5,-7.5) W10(-1.5,-7.5) W11(-0.5,-7.5) W12(0.5,-7.5) W13(1.5,-7.5) W14(2.5,-7.5) W15(3.5,-7.5) W16(4.5,-7.5) W17(5.5,-7.5) W18(6.5,-7.5) W19(7.5,-7.5) W20(8.5,-7.5) W21(9.5,-7.5) W22(10.5,-7.5) Y1(-10.5,-8.5) Y2(-9.5,-8.5) Y3(-8.5,-8.5) Y4(-7.5,-8.5) Y5(-6.5,-8.5) Y6(-5.5,-8.5) Y7(-4.5,-8.5) Y8(-3.5,-8.5) Y9(-2.5,-8.5) Y10(-1.5,-8.5) Y11(-0.5,-8.5) Y12(0.5,-8.5) Y13(1.5,-8.5) Y14(2.5,-8.5) Y15(3.5,-8.5) Y16(4.5,-8.5) Y17(5.5,-8.5) Y18(6.5,-8.5) Y19(7.5,-8.5) Y20(8.5,-8.5) Y21(9.5,-8.5) Y22(10.5,-8.5)
Top Overlay:
  circle w0.25: c-12.15,10.5 r0.125
  region: -10.5,11.5 -11.5,10.5 -11.5,11.5
  lines w0.2: -11.5,10.5 -10.5,11.5 ; -11.5,-11.5 -11.5,11.5 11.5,11.5 11.5,-11.5 -11.5,-11.5
Mechanical 13:
  lines w0.1: -11.5,-11.5 -11.5,11.5 11.5,11.5 11.5,-11.5 -11.5,-11.5
Mechanical 15:
  lines w0.1: -0.5,0 0.5,0 ; 0,-0.5 0,0.5 ; -12.5,-12.5 -12.5,12.5 12.5,12.5 12.5,-12.5 -12.5,-12.5
3D body: height 2.6, standoff 0, extent -11.5,-11.5 11.5,11.5

## FBGA780-2 [mm] "BGA, 780-Leads, Body 29x29mm, Pitch 1mm"
height 2.6
pads (780):
  round 0.5 smd: A2(-12.5,13.5) A3(-11.5,13.5) A4(-10.5,13.5) A5(-9.5,13.5) A6(-8.5,13.5) A7(-7.5,13.5) A8(-6.5,13.5) A9(-5.5,13.5) A10(-4.5,13.5) A11(-3.5,13.5) A12(-2.5,13.5) A13(-1.5,13.5) A14(-0.5,13.5) A15(0.5,13.5) A16(1.5,13.5) A17(2.5,13.5) A18(3.5,13.5) A19(4.5,13.5) A20(5.5,13.5) A21(6.5,13.5) A22(7.5,13.5) A23(8.5,13.5) A24(9.5,13.5) A25(10.5,13.5) A26(11.5,13.5) A27(12.5,13.5) AA1(-13.5,-6.5) AA2(-12.5,-6.5) AA3(-11.5,-6.5) AA4(-10.5,-6.5) AA5(-9.5,-6.5) AA6(-8.5,-6.5) AA7(-7.5,-6.5) AA8(-6.5,-6.5) AA9(-5.5,-6.5) AA10(-4.5,-6.5) AA11(-3.5,-6.5) AA12(-2.5,-6.5) AA13(-1.5,-6.5) AA14(-0.5,-6.5) AA15(0.5,-6.5) AA16(1.5,-6.5) AA17(2.5,-6.5) AA18(3.5,-6.5) AA19(4.5,-6.5) AA20(5.5,-6.5) AA21(6.5,-6.5) AA22(7.5,-6.5) AA23(8.5,-6.5) AA24(9.5,-6.5) AA25(10.5,-6.5) AA26(11.5,-6.5) AA27(12.5,-6.5) AA28(13.5,-6.5) AB1(-13.5,-7.5) AB2(-12.5,-7.5) AB3(-11.5,-7.5) AB4(-10.5,-7.5) AB5(-9.5,-7.5) AB6(-8.5,-7.5) AB7(-7.5,-7.5) AB8(-6.5,-7.5) AB9(-5.5,-7.5) AB10(-4.5,-7.5) AB11(-3.5,-7.5) AB12(-2.5,-7.5) AB13(-1.5,-7.5) AB14(-0.5,-7.5) AB15(0.5,-7.5) AB16(1.5,-7.5) AB17(2.5,-7.5) AB18(3.5,-7.5) AB19(4.5,-7.5) AB20(5.5,-7.5) AB21(6.5,-7.5) AB22(7.5,-7.5) AB23(8.5,-7.5) AB24(9.5,-7.5) AB25(10.5,-7.5) AB26(11.5,-7.5) AB27(12.5,-7.5) AB28(13.5,-7.5) AC1(-13.5,-8.5) AC2(-12.5,-8.5) AC3(-11.5,-8.5) AC4(-10.5,-8.5) AC5(-9.5,-8.5) AC6(-8.5,-8.5) AC7(-7.5,-8.5) AC8(-6.5,-8.5) AC9(-5.5,-8.5) AC10(-4.5,-8.5) AC11(-3.5,-8.5) AC12(-2.5,-8.5) AC13(-1.5,-8.5) AC14(-0.5,-8.5) AC15(0.5,-8.5) AC16(1.5,-8.5) AC17(2.5,-8.5) AC18(3.5,-8.5) AC19(4.5,-8.5) AC20(5.5,-8.5) AC21(6.5,-8.5) AC22(7.5,-8.5) AC23(8.5,-8.5) AC24(9.5,-8.5) AC25(10.5,-8.5) AC26(11.5,-8.5) AC27(12.5,-8.5) AC28(13.5,-8.5) AD1(-13.5,-9.5) AD2(-12.5,-9.5) AD3(-11.5,-9.5) AD4(-10.5,-9.5) AD5(-9.5,-9.5) AD6(-8.5,-9.5) AD7(-7.5,-9.5) AD8(-6.5,-9.5) AD9(-5.5,-9.5) AD10(-4.5,-9.5) AD11(-3.5,-9.5) AD12(-2.5,-9.5) AD13(-1.5,-9.5) AD14(-0.5,-9.5) AD15(0.5,-9.5) AD16(1.5,-9.5) AD17(2.5,-9.5) AD18(3.5,-9.5) AD19(4.5,-9.5) AD20(5.5,-9.5) AD21(6.5,-9.5) AD22(7.5,-9.5) AD23(8.5,-9.5) AD24(9.5,-9.5) AD25(10.5,-9.5) AD26(11.5,-9.5) AD27(12.5,-9.5) AD28(13.5,-9.5) AE1(-13.5,-10.5) AE2(-12.5,-10.5) AE3(-11.5,-10.5) AE4(-10.5,-10.5) AE5(-9.5,-10.5) AE6(-8.5,-10.5) AE7(-7.5,-10.5) AE8(-6.5,-10.5) AE9(-5.5,-10.5) AE10(-4.5,-10.5) AE11(-3.5,-10.5) AE12(-2.5,-10.5) AE13(-1.5,-10.5) AE14(-0.5,-10.5) AE15(0.5,-10.5) AE16(1.5,-10.5) AE17(2.5,-10.5) AE18(3.5,-10.5) AE19(4.5,-10.5) AE20(5.5,-10.5) AE21(6.5,-10.5) AE22(7.5,-10.5) AE23(8.5,-10.5) AE24(9.5,-10.5) AE25(10.5,-10.5) AE26(11.5,-10.5) AE27(12.5,-10.5) AE28(13.5,-10.5) AF1(-13.5,-11.5) AF2(-12.5,-11.5) AF3(-11.5,-11.5) AF4(-10.5,-11.5) AF5(-9.5,-11.5) AF6(-8.5,-11.5) AF7(-7.5,-11.5) AF8(-6.5,-11.5) AF9(-5.5,-11.5) AF10(-4.5,-11.5) AF11(-3.5,-11.5) AF12(-2.5,-11.5) AF13(-1.5,-11.5) AF14(-0.5,-11.5) AF15(0.5,-11.5) AF16(1.5,-11.5) AF17(2.5,-11.5) AF18(3.5,-11.5) AF19(4.5,-11.5) AF20(5.5,-11.5) AF21(6.5,-11.5) AF22(7.5,-11.5) AF23(8.5,-11.5) AF24(9.5,-11.5) AF25(10.5,-11.5) AF26(11.5,-11.5) AF27(12.5,-11.5) AF28(13.5,-11.5) AG1(-13.5,-12.5) AG2(-12.5,-12.5) AG3(-11.5,-12.5) AG4(-10.5,-12.5) AG5(-9.5,-12.5) AG6(-8.5,-12.5) AG7(-7.5,-12.5) AG8(-6.5,-12.5) AG9(-5.5,-12.5) AG10(-4.5,-12.5) AG11(-3.5,-12.5) AG12(-2.5,-12.5) AG13(-1.5,-12.5) AG14(-0.5,-12.5) AG15(0.5,-12.5) AG16(1.5,-12.5) AG17(2.5,-12.5) AG18(3.5,-12.5) AG19(4.5,-12.5) AG20(5.5,-12.5) AG21(6.5,-12.5) AG22(7.5,-12.5) AG23(8.5,-12.5) AG24(9.5,-12.5) AG25(10.5,-12.5) AG26(11.5,-12.5) AG27(12.5,-12.5) AG28(13.5,-12.5) AH2(-12.5,-13.5) AH3(-11.5,-13.5) AH4(-10.5,-13.5) AH5(-9.5,-13.5) AH6(-8.5,-13.5) AH7(-7.5,-13.5) AH8(-6.5,-13.5) AH9(-5.5,-13.5) AH10(-4.5,-13.5) AH11(-3.5,-13.5) AH12(-2.5,-13.5) AH13(-1.5,-13.5) AH14(-0.5,-13.5) AH15(0.5,-13.5) AH16(1.5,-13.5) AH17(2.5,-13.5) AH18(3.5,-13.5) AH19(4.5,-13.5) AH20(5.5,-13.5) AH21(6.5,-13.5) AH22(7.5,-13.5) AH23(8.5,-13.5) AH24(9.5,-13.5) AH25(10.5,-13.5) AH26(11.5,-13.5) AH27(12.5,-13.5) B1(-13.5,12.5) B2(-12.5,12.5) B3(-11.5,12.5) B4(-10.5,12.5) B5(-9.5,12.5) B6(-8.5,12.5) B7(-7.5,12.5) B8(-6.5,12.5) B9(-5.5,12.5) B10(-4.5,12.5) B11(-3.5,12.5) B12(-2.5,12.5) B13(-1.5,12.5) B14(-0.5,12.5) B15(0.5,12.5) B16(1.5,12.5) B17(2.5,12.5) B18(3.5,12.5) B19(4.5,12.5) B20(5.5,12.5) B21(6.5,12.5) B22(7.5,12.5) B23(8.5,12.5) B24(9.5,12.5) B25(10.5,12.5) B26(11.5,12.5) B27(12.5,12.5) B28(13.5,12.5) C1(-13.5,11.5) C2(-12.5,11.5) C3(-11.5,11.5) C4(-10.5,11.5) C5(-9.5,11.5) C6(-8.5,11.5) C7(-7.5,11.5) C8(-6.5,11.5) C9(-5.5,11.5) C10(-4.5,11.5) C11(-3.5,11.5) C12(-2.5,11.5) C13(-1.5,11.5) C14(-0.5,11.5) C15(0.5,11.5) C16(1.5,11.5) C17(2.5,11.5) C18(3.5,11.5) C19(4.5,11.5) C20(5.5,11.5) C21(6.5,11.5) C22(7.5,11.5) C23(8.5,11.5) C24(9.5,11.5) C25(10.5,11.5) C26(11.5,11.5) C27(12.5,11.5) C28(13.5,11.5) D1(-13.5,10.5) D2(-12.5,10.5) D3(-11.5,10.5) D4(-10.5,10.5) D5(-9.5,10.5) D6(-8.5,10.5) D7(-7.5,10.5) D8(-6.5,10.5) D9(-5.5,10.5) D10(-4.5,10.5) D11(-3.5,10.5) D12(-2.5,10.5) D13(-1.5,10.5) D14(-0.5,10.5) D15(0.5,10.5) D16(1.5,10.5) D17(2.5,10.5) D18(3.5,10.5) D19(4.5,10.5) D20(5.5,10.5) D21(6.5,10.5) D22(7.5,10.5) D23(8.5,10.5) D24(9.5,10.5) D25(10.5,10.5) D26(11.5,10.5) D27(12.5,10.5) D28(13.5,10.5) E1(-13.5,9.5) E2(-12.5,9.5) E3(-11.5,9.5) E4(-10.5,9.5) E5(-9.5,9.5) E6(-8.5,9.5) E7(-7.5,9.5) E8(-6.5,9.5) E9(-5.5,9.5) E10(-4.5,9.5) E11(-3.5,9.5) E12(-2.5,9.5) E13(-1.5,9.5) E14(-0.5,9.5) E15(0.5,9.5) E16(1.5,9.5) E17(2.5,9.5) E18(3.5,9.5) E19(4.5,9.5) E20(5.5,9.5) E21(6.5,9.5) E22(7.5,9.5) E23(8.5,9.5) E24(9.5,9.5) E25(10.5,9.5) E26(11.5,9.5) E27(12.5,9.5) E28(13.5,9.5) F1(-13.5,8.5) F2(-12.5,8.5) F3(-11.5,8.5) F4(-10.5,8.5) F5(-9.5,8.5) F6(-8.5,8.5) F7(-7.5,8.5) F8(-6.5,8.5) F9(-5.5,8.5) F10(-4.5,8.5) F11(-3.5,8.5) F12(-2.5,8.5) F13(-1.5,8.5) F14(-0.5,8.5) F15(0.5,8.5) F16(1.5,8.5) F17(2.5,8.5) F18(3.5,8.5) F19(4.5,8.5) F20(5.5,8.5) F21(6.5,8.5) F22(7.5,8.5) F23(8.5,8.5) F24(9.5,8.5) F25(10.5,8.5) F26(11.5,8.5) F27(12.5,8.5) F28(13.5,8.5) G1(-13.5,7.5) G2(-12.5,7.5) G3(-11.5,7.5) G4(-10.5,7.5) G5(-9.5,7.5) G6(-8.5,7.5) G7(-7.5,7.5) G8(-6.5,7.5) G9(-5.5,7.5) G10(-4.5,7.5) G11(-3.5,7.5) G12(-2.5,7.5) G13(-1.5,7.5) G14(-0.5,7.5) G15(0.5,7.5) G16(1.5,7.5) G17(2.5,7.5) G18(3.5,7.5) G19(4.5,7.5) G20(5.5,7.5) G21(6.5,7.5) G22(7.5,7.5) G23(8.5,7.5) G24(9.5,7.5) G25(10.5,7.5) G26(11.5,7.5) G27(12.5,7.5) G28(13.5,7.5) H1(-13.5,6.5) H2(-12.5,6.5) H3(-11.5,6.5) H4(-10.5,6.5) H5(-9.5,6.5) H6(-8.5,6.5) H7(-7.5,6.5) H8(-6.5,6.5) H9(-5.5,6.5) H10(-4.5,6.5) H11(-3.5,6.5) H12(-2.5,6.5) H13(-1.5,6.5) H14(-0.5,6.5) H15(0.5,6.5) H16(1.5,6.5) H17(2.5,6.5) H18(3.5,6.5) H19(4.5,6.5) H20(5.5,6.5) H21(6.5,6.5) H22(7.5,6.5) H23(8.5,6.5) H24(9.5,6.5) H25(10.5,6.5) H26(11.5,6.5) H27(12.5,6.5) H28(13.5,6.5) J1(-13.5,5.5) J2(-12.5,5.5) J3(-11.5,5.5) J4(-10.5,5.5) J5(-9.5,5.5) J6(-8.5,5.5) J7(-7.5,5.5) J8(-6.5,5.5) J9(-5.5,5.5) J10(-4.5,5.5) J11(-3.5,5.5) J12(-2.5,5.5) J13(-1.5,5.5) J14(-0.5,5.5) J15(0.5,5.5) J16(1.5,5.5) J17(2.5,5.5) J18(3.5,5.5) J19(4.5,5.5) J20(5.5,5.5) J21(6.5,5.5) J22(7.5,5.5) J23(8.5,5.5) J24(9.5,5.5) J25(10.5,5.5) J26(11.5,5.5) J27(12.5,5.5) J28(13.5,5.5) K1(-13.5,4.5) K2(-12.5,4.5) K3(-11.5,4.5) K4(-10.5,4.5) K5(-9.5,4.5) K6(-8.5,4.5) K7(-7.5,4.5) K8(-6.5,4.5) K9(-5.5,4.5) K10(-4.5,4.5) K11(-3.5,4.5) K12(-2.5,4.5) K13(-1.5,4.5) K14(-0.5,4.5) K15(0.5,4.5) K16(1.5,4.5) K17(2.5,4.5) K18(3.5,4.5) K19(4.5,4.5) K20(5.5,4.5) K21(6.5,4.5) K22(7.5,4.5) K23(8.5,4.5) K24(9.5,4.5) K25(10.5,4.5) K26(11.5,4.5) K27(12.5,4.5) K28(13.5,4.5) L1(-13.5,3.5) L2(-12.5,3.5) L3(-11.5,3.5) L4(-10.5,3.5) L5(-9.5,3.5) L6(-8.5,3.5) L7(-7.5,3.5) L8(-6.5,3.5) L9(-5.5,3.5) L10(-4.5,3.5) L11(-3.5,3.5) L12(-2.5,3.5) L13(-1.5,3.5) L14(-0.5,3.5) L15(0.5,3.5) L16(1.5,3.5) L17(2.5,3.5) L18(3.5,3.5) L19(4.5,3.5) L20(5.5,3.5) L21(6.5,3.5) L22(7.5,3.5) L23(8.5,3.5) L24(9.5,3.5) L25(10.5,3.5) L26(11.5,3.5) L27(12.5,3.5) L28(13.5,3.5) M1(-13.5,2.5) M2(-12.5,2.5) M3(-11.5,2.5) M4(-10.5,2.5) M5(-9.5,2.5) M6(-8.5,2.5) M7(-7.5,2.5) M8(-6.5,2.5) M9(-5.5,2.5) M10(-4.5,2.5) M11(-3.5,2.5) M12(-2.5,2.5) M13(-1.5,2.5) M14(-0.5,2.5) M15(0.5,2.5) M16(1.5,2.5) M17(2.5,2.5) M18(3.5,2.5) M19(4.5,2.5) M20(5.5,2.5) M21(6.5,2.5) M22(7.5,2.5) M23(8.5,2.5) M24(9.5,2.5) M25(10.5,2.5) M26(11.5,2.5) M27(12.5,2.5) M28(13.5,2.5) N1(-13.5,1.5) N2(-12.5,1.5) N3(-11.5,1.5) N4(-10.5,1.5) N5(-9.5,1.5) N6(-8.5,1.5) N7(-7.5,1.5) N8(-6.5,1.5) N9(-5.5,1.5) N10(-4.5,1.5) N11(-3.5,1.5) N12(-2.5,1.5) N13(-1.5,1.5) N14(-0.5,1.5) N15(0.5,1.5) N16(1.5,1.5) N17(2.5,1.5) N18(3.5,1.5) N19(4.5,1.5) N20(5.5,1.5) N21(6.5,1.5) N22(7.5,1.5) N23(8.5,1.5) N24(9.5,1.5) N25(10.5,1.5) N26(11.5,1.5) N27(12.5,1.5) N28(13.5,1.5) P1(-13.5,0.5) P2(-12.5,0.5) P3(-11.5,0.5) P4(-10.5,0.5) P5(-9.5,0.5) P6(-8.5,0.5) P7(-7.5,0.5) P8(-6.5,0.5) P9(-5.5,0.5) P10(-4.5,0.5) P11(-3.5,0.5) P12(-2.5,0.5) P13(-1.5,0.5) P14(-0.5,0.5) P15(0.5,0.5) P16(1.5,0.5) P17(2.5,0.5) P18(3.5,0.5) P19(4.5,0.5) P20(5.5,0.5) P21(6.5,0.5) P22(7.5,0.5) P23(8.5,0.5) P24(9.5,0.5) P25(10.5,0.5) P26(11.5,0.5) P27(12.5,0.5) P28(13.5,0.5) R1(-13.5,-0.5) R2(-12.5,-0.5) R3(-11.5,-0.5) R4(-10.5,-0.5) R5(-9.5,-0.5) R6(-8.5,-0.5) R7(-7.5,-0.5) R8(-6.5,-0.5) R9(-5.5,-0.5) R10(-4.5,-0.5) R11(-3.5,-0.5) R12(-2.5,-0.5) R13(-1.5,-0.5) R14(-0.5,-0.5) R15(0.5,-0.5) R16(1.5,-0.5) R17(2.5,-0.5) R18(3.5,-0.5) R19(4.5,-0.5) R20(5.5,-0.5) R21(6.5,-0.5) R22(7.5,-0.5) R23(8.5,-0.5) R24(9.5,-0.5) R25(10.5,-0.5) R26(11.5,-0.5) R27(12.5,-0.5) R28(13.5,-0.5) T1(-13.5,-1.5) T2(-12.5,-1.5) T3(-11.5,-1.5) T4(-10.5,-1.5) T5(-9.5,-1.5) T6(-8.5,-1.5) T7(-7.5,-1.5) T8(-6.5,-1.5) T9(-5.5,-1.5) T10(-4.5,-1.5) T11(-3.5,-1.5) T12(-2.5,-1.5) T13(-1.5,-1.5) T14(-0.5,-1.5) T15(0.5,-1.5) T16(1.5,-1.5) T17(2.5,-1.5) T18(3.5,-1.5) T19(4.5,-1.5) T20(5.5,-1.5) T21(6.5,-1.5) T22(7.5,-1.5) T23(8.5,-1.5) T24(9.5,-1.5) T25(10.5,-1.5) T26(11.5,-1.5) T27(12.5,-1.5) T28(13.5,-1.5) U1(-13.5,-2.5) U2(-12.5,-2.5) U3(-11.5,-2.5) U4(-10.5,-2.5) U5(-9.5,-2.5) U6(-8.5,-2.5) U7(-7.5,-2.5) U8(-6.5,-2.5) U9(-5.5,-2.5) U10(-4.5,-2.5) U11(-3.5,-2.5) U12(-2.5,-2.5) U13(-1.5,-2.5) U14(-0.5,-2.5) U15(0.5,-2.5) U16(1.5,-2.5) U17(2.5,-2.5) U18(3.5,-2.5) U19(4.5,-2.5) U20(5.5,-2.5) U21(6.5,-2.5) U22(7.5,-2.5) U23(8.5,-2.5) U24(9.5,-2.5) U25(10.5,-2.5) U26(11.5,-2.5) U27(12.5,-2.5) U28(13.5,-2.5) V1(-13.5,-3.5) V2(-12.5,-3.5) V3(-11.5,-3.5) V4(-10.5,-3.5) V5(-9.5,-3.5) V6(-8.5,-3.5) V7(-7.5,-3.5) V8(-6.5,-3.5) V9(-5.5,-3.5) V10(-4.5,-3.5) V11(-3.5,-3.5) V12(-2.5,-3.5) V13(-1.5,-3.5) V14(-0.5,-3.5) V15(0.5,-3.5) V16(1.5,-3.5) V17(2.5,-3.5) V18(3.5,-3.5) V19(4.5,-3.5) V20(5.5,-3.5) V21(6.5,-3.5) V22(7.5,-3.5) V23(8.5,-3.5) V24(9.5,-3.5) V25(10.5,-3.5) V26(11.5,-3.5) V27(12.5,-3.5) V28(13.5,-3.5) W1(-13.5,-4.5) W2(-12.5,-4.5) W3(-11.5,-4.5) W4(-10.5,-4.5) W5(-9.5,-4.5) W6(-8.5,-4.5) W7(-7.5,-4.5) W8(-6.5,-4.5) W9(-5.5,-4.5) W10(-4.5,-4.5) W11(-3.5,-4.5) W12(-2.5,-4.5) W13(-1.5,-4.5) W14(-0.5,-4.5) W15(0.5,-4.5) W16(1.5,-4.5) W17(2.5,-4.5) W18(3.5,-4.5) W19(4.5,-4.5) W20(5.5,-4.5) W21(6.5,-4.5) W22(7.5,-4.5) W23(8.5,-4.5) W24(9.5,-4.5) W25(10.5,-4.5) W26(11.5,-4.5) W27(12.5,-4.5) W28(13.5,-4.5) Y1(-13.5,-5.5) Y2(-12.5,-5.5) Y3(-11.5,-5.5) Y4(-10.5,-5.5) Y5(-9.5,-5.5) Y6(-8.5,-5.5) Y7(-7.5,-5.5) Y8(-6.5,-5.5) Y9(-5.5,-5.5) Y10(-4.5,-5.5) Y11(-3.5,-5.5) Y12(-2.5,-5.5) Y13(-1.5,-5.5) Y14(-0.5,-5.5) Y15(0.5,-5.5) Y16(1.5,-5.5) Y17(2.5,-5.5) Y18(3.5,-5.5) Y19(4.5,-5.5) Y20(5.5,-5.5) Y21(6.5,-5.5) Y22(7.5,-5.5) Y23(8.5,-5.5) Y24(9.5,-5.5) Y25(10.5,-5.5) Y26(11.5,-5.5) Y27(12.5,-5.5) Y28(13.5,-5.5)
Top Overlay:
  circle w0.25: c-15.15,13.5 r0.125
  region: -13.5,14.5 -14.5,13.5 -14.5,14.5
  lines w0.2: -14.5,13.5 -13.5,14.5 ; -14.5,-14.5 -14.5,14.5 14.5,14.5 14.5,-14.5 -14.5,-14.5
Mechanical 13:
  lines w0.1: -14.5,-14.5 -14.5,14.5 14.5,14.5 14.5,-14.5 -14.5,-14.5
Mechanical 15:
  lines w0.1: -0.5,0 0.5,0 ; 0,-0.5 0,0.5 ; -15.5,-15.5 -15.5,15.5 15.5,15.5 15.5,-15.5 -15.5,-15.5
3D body: height 2.6, standoff 0, extent -14.5,-14.5 14.5,14.5

## MBGA164 [mm] "BGA, 164-Leads, Body 8x8mm, Pitch 0.5mm"
height 1.2
pads (164):
  round 0.25 smd: A1(-3.5,3.5) A2(-3,3.5) A3(-2.5,3.5) A4(-2,3.5) A5(-1.5,3.5) A6(-1,3.5) A7(-0.5,3.5) A8(0,3.5) A9(0.5,3.5) A10(1,3.5) A11(1.5,3.5) A12(2,3.5) A13(2.5,3.5) A14(3,3.5) A15(3.5,3.5) B1(-3.5,3) B2(-3,3) B3(-2.5,3) B4(-2,3) B5(-1.5,3) B6(-1,3) B7(-0.5,3) B8(0,3) B9(0.5,3) B10(1,3) B11(1.5,3) B12(2,3) B13(2.5,3) B14(3,3) B15(3.5,3) C1(-3.5,2.5) C2(-3,2.5) C4(-2,2.5) C5(-1.5,2.5) C6(-1,2.5) C7(-0.5,2.5) C8(0,2.5) C9(0.5,2.5) C10(1,2.5) C11(1.5,2.5) C12(2,2.5) C14(3,2.5) C15(3.5,2.5) D1(-3.5,2) D2(-3,2) D3(-2.5,2) D5(-1.5,2) D6(-1,2) D7(-0.5,2) D8(0,2) D9(0.5,2) D10(1,2) D11(1.5,2) D13(2.5,2) D14(3,2) D15(3.5,2) E1(-3.5,1.5) E2(-3,1.5) E3(-2.5,1.5) E13(2.5,1.5) E14(3,1.5) E15(3.5,1.5) F1(-3.5,1) F2(-3,1) F3(-2.5,1) F4(-2,1) F12(2,1) F13(2.5,1) F14(3,1) F15(3.5,1) G1(-3.5,0.5) G2(-3,0.5) G3(-2.5,0.5) G4(-2,0.5) G12(2,0.5) G13(2.5,0.5) G14(3,0.5) G15(3.5,0.5) H1(-3.5,0) H2(-3,0) H3(-2.5,0) H4(-2,0) H12(2,0) H13(2.5,0) H14(3,0) H15(3.5,0) J1(-3.5,-0.5) J2(-3,-0.5) J3(-2.5,-0.5) J4(-2,-0.5) J12(2,-0.5) J13(2.5,-0.5) J14(3,-0.5) J15(3.5,-0.5) K1(-3.5,-1) K2(-3,-1) K3(-2.5,-1) K4(-2,-1) K12(2,-1) K13(2.5,-1) K14(3,-1) K15(3.5,-1) L1(-3.5,-1.5) L2(-3,-1.5) L3(-2.5,-1.5) L13(2.5,-1.5) L14(3,-1.5) L15(3.5,-1.5) M1(-3.5,-2) M2(-3,-2) M3(-2.5,-2) M5(-1.5,-2) M6(-1,-2) M7(-0.5,-2) M8(0,-2) M9(0.5,-2) M10(1,-2) M11(1.5,-2) M13(2.5,-2) M14(3,-2) M15(3.5,-2) N1(-3.5,-2.5) N2(-3,-2.5) N4(-2,-2.5) N5(-1.5,-2.5) N6(-1,-2.5) N7(-0.5,-2.5) N8(0,-2.5) N9(0.5,-2.5) N10(1,-2.5) N11(1.5,-2.5) N12(2,-2.5) N14(3,-2.5) N15(3.5,-2.5) P1(-3.5,-3) P2(-3,-3) P3(-2.5,-3) P4(-2,-3) P5(-1.5,-3) P6(-1,-3) P7(-0.5,-3) P8(0,-3) P9(0.5,-3) P10(1,-3) P11(1.5,-3) P12(2,-3) P13(2.5,-3) P14(3,-3) P15(3.5,-3) R1(-3.5,-3.5) R2(-3,-3.5) R3(-2.5,-3.5) R4(-2,-3.5) R5(-1.5,-3.5) R6(-1,-3.5) R7(-0.5,-3.5) R8(0,-3.5) R9(0.5,-3.5) R10(1,-3.5) R11(1.5,-3.5) R12(2,-3.5) R13(2.5,-3.5) R14(3,-3.5) R15(3.5,-3.5)
Top Overlay:
  circle w0.25: c-4.65,3.85 r0.125
  region: -3.707,4 -4,3.707 -4,4
  lines w0.2: -4,3.707 -3.707,4 ; -4,-4 -4,4 4,4 4,-4 -4,-4
Mechanical 13:
  lines w0.1: -4,-4 -4,4 4,4 4,-4 -4,-4
Mechanical 15:
  lines w0.1: -0.5,0 0.5,0 ; 0,-0.5 0,0.5 ; -5,-5 -5,5 5,5 5,-5 -5,-5
3D body: height 1.2, standoff 0.15, extent -4,-4 4,4

## PQFP240_L [mm] "Shrink QFP, 240-Leads, Body 32x32mm, Pitch 0.5mm, IPC High Density"
height 4.1
pads (240):
  oval 1.55x0.25 smd: 1(-16.825,14.75) 2(-16.825,14.25) 3(-16.825,13.75) 4(-16.825,13.25) 5(-16.825,12.75) 6(-16.825,12.25) 7(-16.825,11.75) 8(-16.825,11.25) 9(-16.825,10.75) 10(-16.825,10.25) 11(-16.825,9.75) 12(-16.825,9.25) 13(-16.825,8.75) 14(-16.825,8.25) 15(-16.825,7.75) 16(-16.825,7.25) 17(-16.825,6.75) 18(-16.825,6.25) 19(-16.825,5.75) 20(-16.825,5.25) 21(-16.825,4.75) 22(-16.825,4.25) 23(-16.825,3.75) 24(-16.825,3.25) 25(-16.825,2.75) 26(-16.825,2.25) 27(-16.825,1.75) 28(-16.825,1.25) 29(-16.825,0.75) 30(-16.825,0.25) 31(-16.825,-0.25) 32(-16.825,-0.75) 33(-16.825,-1.25) 34(-16.825,-1.75) 35(-16.825,-2.25) 36(-16.825,-2.75) 37(-16.825,-3.25) 38(-16.825,-3.75) 39(-16.825,-4.25) 40(-16.825,-4.75) 41(-16.825,-5.25) 42(-16.825,-5.75) 43(-16.825,-6.25) 44(-16.825,-6.75) 45(-16.825,-7.25) 46(-16.825,-7.75) 47(-16.825,-8.25) 48(-16.825,-8.75) 49(-16.825,-9.25) 50(-16.825,-9.75) 51(-16.825,-10.25) 52(-16.825,-10.75) 53(-16.825,-11.25) 54(-16.825,-11.75) 55(-16.825,-12.25) 56(-16.825,-12.75) 57(-16.825,-13.25) 58(-16.825,-13.75) 59(-16.825,-14.25) 60(-16.825,-14.75) 121(16.825,-14.75) 122(16.825,-14.25) 123(16.825,-13.75) 124(16.825,-13.25) 125(16.825,-12.75) 126(16.825,-12.25) 127(16.825,-11.75) 128(16.825,-11.25) 129(16.825,-10.75) 130(16.825,-10.25) 131(16.825,-9.75) 132(16.825,-9.25) 133(16.825,-8.75) 134(16.825,-8.25) 135(16.825,-7.75) 136(16.825,-7.25) 137(16.825,-6.75) 138(16.825,-6.25) 139(16.825,-5.75) 140(16.825,-5.25) 141(16.825,-4.75) 142(16.825,-4.25) 143(16.825,-3.75) 144(16.825,-3.25) 145(16.825,-2.75) 146(16.825,-2.25) 147(16.825,-1.75) 148(16.825,-1.25) 149(16.825,-0.75) 150(16.825,-0.25) 151(16.825,0.25) 152(16.825,0.75) 153(16.825,1.25) 154(16.825,1.75) 155(16.825,2.25) 156(16.825,2.75) 157(16.825,3.25) 158(16.825,3.75) 159(16.825,4.25) 160(16.825,4.75) 161(16.825,5.25) 162(16.825,5.75) 163(16.825,6.25) 164(16.825,6.75) 165(16.825,7.25) 166(16.825,7.75) 167(16.825,8.25) 168(16.825,8.75) 169(16.825,9.25) 170(16.825,9.75) 171(16.825,10.25) 172(16.825,10.75) 173(16.825,11.25) 174(16.825,11.75) 175(16.825,12.25) 176(16.825,12.75) 177(16.825,13.25) 178(16.825,13.75) 179(16.825,14.25) 180(16.825,14.75)
  oval 0.25x1.55 smd: 61(-14.75,-16.825) 62(-14.25,-16.825) 63(-13.75,-16.825) 64(-13.25,-16.825) 65(-12.75,-16.825) 66(-12.25,-16.825) 67(-11.75,-16.825) 68(-11.25,-16.825) 69(-10.75,-16.825) 70(-10.25,-16.825) 71(-9.75,-16.825) 72(-9.25,-16.825) 73(-8.75,-16.825) 74(-8.25,-16.825) 75(-7.75,-16.825) 76(-7.25,-16.825) 77(-6.75,-16.825) 78(-6.25,-16.825) 79(-5.75,-16.825) 80(-5.25,-16.825) 81(-4.75,-16.825) 82(-4.25,-16.825) 83(-3.75,-16.825) 84(-3.25,-16.825) 85(-2.75,-16.825) 86(-2.25,-16.825) 87(-1.75,-16.825) 88(-1.25,-16.825) 89(-0.75,-16.825) 90(-0.25,-16.825) 91(0.25,-16.825) 92(0.75,-16.825) 93(1.25,-16.825) 94(1.75,-16.825) 95(2.25,-16.825) 96(2.75,-16.825) 97(3.25,-16.825) 98(3.75,-16.825) 99(4.25,-16.825) 100(4.75,-16.825) 101(5.25,-16.825) 102(5.75,-16.825) 103(6.25,-16.825) 104(6.75,-16.825) 105(7.25,-16.825) 106(7.75,-16.825) 107(8.25,-16.825) 108(8.75,-16.825) 109(9.25,-16.825) 110(9.75,-16.825) 111(10.25,-16.825) 112(10.75,-16.825) 113(11.25,-16.825) 114(11.75,-16.825) 115(12.25,-16.825) 116(12.75,-16.825) 117(13.25,-16.825) 118(13.75,-16.825) 119(14.25,-16.825) 120(14.75,-16.825) 181(14.75,16.825) 182(14.25,16.825) 183(13.75,16.825) 184(13.25,16.825) 185(12.75,16.825) 186(12.25,16.825) 187(11.75,16.825) 188(11.25,16.825) 189(10.75,16.825) 190(10.25,16.825) 191(9.75,16.825) 192(9.25,16.825) 193(8.75,16.825) 194(8.25,16.825) 195(7.75,16.825) 196(7.25,16.825) 197(6.75,16.825) 198(6.25,16.825) 199(5.75,16.825) 200(5.25,16.825) 201(4.75,16.825) 202(4.25,16.825) 203(3.75,16.825) 204(3.25,16.825) 205(2.75,16.825) 206(2.25,16.825) 207(1.75,16.825) 208(1.25,16.825) 209(0.75,16.825) 210(0.25,16.825) 211(-0.25,16.825) 212(-0.75,16.825) 213(-1.25,16.825) 214(-1.75,16.825) 215(-2.25,16.825) 216(-2.75,16.825) 217(-3.25,16.825) 218(-3.75,16.825) 219(-4.25,16.825) 220(-4.75,16.825) 221(-5.25,16.825) 222(-5.75,16.825) 223(-6.25,16.825) 224(-6.75,16.825) 225(-7.25,16.825) 226(-7.75,16.825) 227(-8.25,16.825) 228(-8.75,16.825) 229(-9.25,16.825) 230(-9.75,16.825) 231(-10.25,16.825) 232(-10.75,16.825) 233(-11.25,16.825) 234(-11.75,16.825) 235(-12.25,16.825) 236(-12.75,16.825) 237(-13.25,16.825) 238(-13.75,16.825) 239(-14.25,16.825) 240(-14.75,16.825)
Top Overlay:
  circle w0.6: c-14.65,14.65 r0.3
  circle w0.25: c-16.825,15.425 r0.125
  lines w0.2: -15.65,-15.65 15.65,-15.65 15.65,15.65 -15.65,15.65 -15.65,-15.65
Mechanical 13:
  circle w0.1: c-15.1,15.1 r0.5
  lines w0.1: -16,-16 16,-16 16,16 -16,16 -16,-16
Mechanical 15:
  lines w0.1: -0.5,0 0.5,0 ; 0,-0.5 0,0.5 ; -17.7,-17.7 17.7,-17.7 17.7,17.7 -17.7,17.7 -17.7,-17.7
3D body: height 4.1, standoff 0, extent -16,-16 16,16